# Altium footprint library Integrated Circuits.PcbLib: 21 footprints (part 2 of 2)
Each footprint in its own frame and in the unit in brackets; x right, y up, seen from the top. Pads: shape width x height; smd on the part's side, far side on the other; paste and mask are expansions set on the pad; w line width, h text height; cw(c..) or ccw(c..) is an arc to the next point about the centre after c.
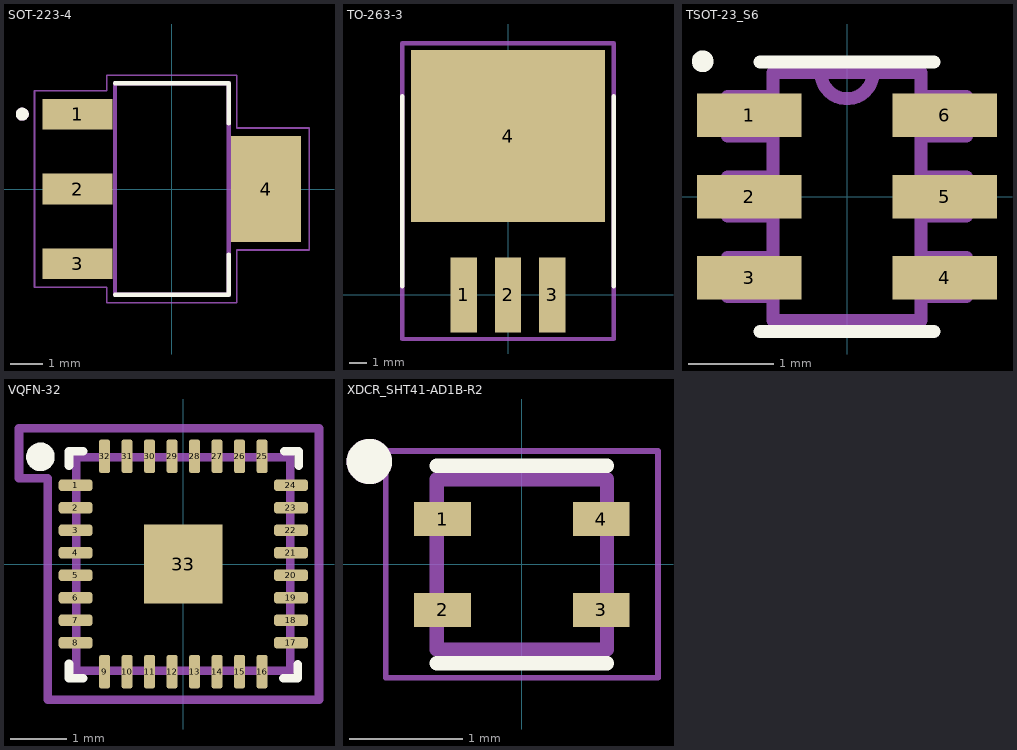
[diagram p1: the footprints below, top view; thin cyan lines are the x and y axes]

## SOT-223-4 [mm]
pads (4):
  rect 2.15x0.95 smd: 1(-2.9,2.3) 2(-2.9,0) 3(-2.9,-2.3)
  rect 2.15x3.25 smd: 4(2.9,0)
Top Overlay:
  circle w0.2: c-4.6,2.3 r0.1
  lines w0.127: -1.75,-3.25 1.75,-3.25 1.75,-2.01 ; -1.75,3.25 1.75,3.25 1.75,2.01
Mechanical 13:
  circle w0.2: c-4.6,2.3 r0.1
  lines w0.127: -1.75,-3.25 1.75,-3.25 1.75,3.25 -1.75,3.25 -1.75,-3.25
Mechanical 15:
  lines w0.05: -4.225,-3.025 -2,-3.025 -2,-3.5 2,-3.5 2,-1.875 4.225,-1.875 4.225,1.875 2,1.875 2,3.5 -2,3.5 -2,3.025 -4.225,3.025 -4.225,-3.025
3D body "SOT-223-4.stp": height 1.68, standoff 0, extent -3.5,-3.175 3.5,3.325

## TO-263-3 [mil]
pads (4):
  rect 60x170 smd: 1(-100,0) 2(0,0) 3(100,0)
  rect 440x390 smd: 4(0,360)
Top Overlay:
  lines w10: -240,20 -240,450 ; 240,20 240,450
Boundary:
  lines w10: -240,-100 240,-100 240,570 -240,570 -240,-100
3D body "User Library-TO263-3.STEP": height 189.26, standoff 0.29, extent -196.85,-71.46 196.85,545.47

## TSOT-23_S6 [mil]
pads (6):
  rect 48x20 smd: 1(-45,37.4) 2(-45,0) 3(-45,-37.4) 4(45,-37.4) 5(45,0) 6(45,37.4)
Top Overlay:
  circle w5: c-66.4,62.24 r2.5
  lines w6: -40,-62 40,-62 ; -40,62 40,62
Mechanical 13:
  lines w6: -12,57 ccw(c0,57) 12,57 ; -12,57 12,57 ; -12,57 -34,57 -34,-57 34,-57 34,57 12,57 ; -55,-46 -55,-28 -34,-28 -34,-46 -55,-46 ; -55,-9 -55,9 -34,9 -34,-9 -55,-9 ; -55,28 -55,46 -34,46 -34,28 -55,28 ; 34,-46 34,-28 55,-28 55,-46 34,-46 ; 34,-9 34,9 55,9 55,-9 34,-9 ; 34,28 34,46 55,46 55,28 34,28
3D body "step_temp.STEP": height 39.37, standoff 0, extent -55.12,-57.09 55.12,57.09

## VQFN-32 [mm] "32 pin VQFN package, 4x4mm, 0.4mm pitch"
pads (33):
  rrect50% 0.6x0.2 smd: 1(-1.915,1.4) 2(-1.915,1) 3(-1.915,0.6) 4(-1.915,0.2) 5(-1.915,-0.2) 6(-1.915,-0.6) 7(-1.915,-1) 8(-1.915,-1.4) 17(1.915,-1.4) 18(1.915,-1) 19(1.915,-0.6) 20(1.915,-0.2) 21(1.915,0.2) 22(1.915,0.6) 23(1.915,1) 24(1.915,1.4)
  rrect50% 0.2x0.6 smd: 9(-1.4,-1.915) 10(-1,-1.915) 11(-0.6,-1.915) 12(-0.2,-1.915) 13(0.2,-1.915) 14(0.6,-1.915) 15(1,-1.915) 16(1.4,-1.915) 25(1.4,1.915) 26(1,1.915) 27(0.6,1.915) 28(0.2,1.915) 29(-0.2,1.915) 30(-0.6,1.915) 31(-1,1.915) 32(-1.4,1.915)
  rect 1.4x1.4 smd: 33(0,0)
Top Overlay:
  circle w0.254: c-2.54,1.905 r0.127
  lines w0.152: -2.032,-1.777 -2.032,-2.032 -1.778,-2.032 ; -2.032,1.75 -2.032,2 ; -2.032,2.005 -1.777,2.005 ; 1.777,-2.032 2.032,-2.032 ; 1.8,2.005 2.05,2.005 2.05,1.75 ; 2.032,-2.03 2.032,-1.78
Mechanical 1:
  lines w0.152: -1.9,-1.9 1.9,-1.9 1.9,1.9 -1.9,1.9 -1.9,-1.9
Boundary:
  lines w0.152: -2.921,1.524 -2.921,2.413 -1.905,2.413 2.413,2.413 2.413,-2.413 -1.778,-2.413 -2.413,-2.413 -2.413,1.524 -2.921,1.524
3D body "User Library-VQFN32.STEP": height 0.86, standoff -0.05, extent -2.01,-2.01 2.01,2.01

## XDCR_SHT41-AD1B-R2 [mm] "Sensirion AG SHT14 Sensor Humidity/Temp"
pads (4):
  rect 0.5x0.3 smd: 1(-0.7,0.4) 2(-0.7,-0.4) 3(0.7,-0.4) 4(0.7,0.4)
Top Overlay:
  circle w0.2: c-1.346,0.908 r0.1
  lines w0.127: -0.75,-0.87 0.75,-0.87 ; -0.75,0.87 0.75,0.87
Mechanical 13:
  circle w0.2: c-1.346,0.908 r0.1
  lines w0.127: -0.75,-0.75 0.75,-0.75 0.75,0.75 -0.75,0.75 -0.75,-0.75
Mechanical 15:
  lines w0.05: -1.2,-1 1.2,-1 1.2,1 -1.2,1 -1.2,-1
3D body "step_temp.STEP": height 0.54, standoff 0, extent -0.751,-0.751 0.751,0.751